# Altium schematic symbol library balloon.SchLib: 132 symbols (part 2 of 2)
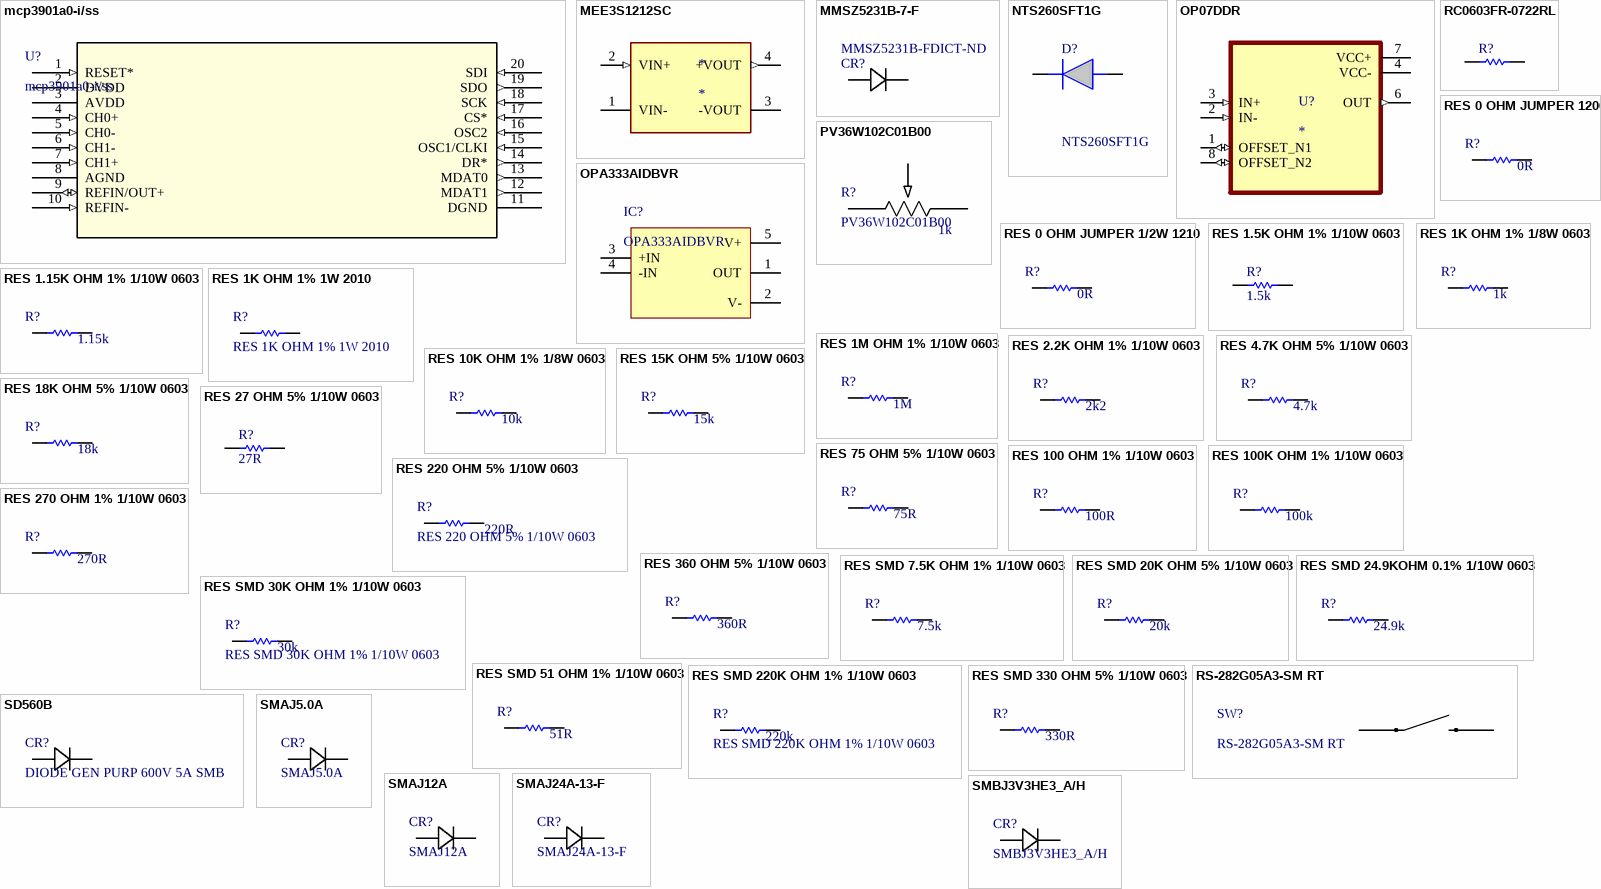
[diagram p4: symbols mcp3901a0-i/ss to SMBJ3V3HE3_A/H]

## RES 27 OHM 5% 1/10W 0603
designator R?, comment Resistance: 27R  (hidden comment: RC0603JR-0727RL)
RES 27 OHM 5% 1/10W 0603; Manufacturer: YAGEO; Supplier PN: 311-27GRCT-ND; Supplier: DIGIKEY; ComponentLink1Description: Supplier Link; ComponentLink1URL: 0R; Manufacturer PN: RC0603JR-0727RL; Supplier 1: Digi-Key; Supplier Part Number 1: 311-27GRCT-ND
footprint 0603 RES
pins: 1, 2

## RES 75 OHM 5% 1/10W 0603
designator R?  Resistance: 75R  (hidden comment: RES 75 OHM 5% 1/10W 0603)
75 Ohms ±5% 0.1W, 1/10W Chip Resistor 0603 (1608 Metric) Moisture Resistant Thick Film; Manufacturer PN: RC0603JR-0775RL; Supplier PN: 311-75GRCT-ND; Supplier: Digikey; Supplier 1: Digi-Key; Supplier Part Number 1: 311-75GRCT-ND
footprint 0603 RES
pins: 1, 2

## RES 100 OHM 1% 1/10W 0603
designator R?  Resistance: 100R  (hidden comment: RES 100 OHM 1% 1/10W 0603)
100 Ohms ±1% 0.1W, 1/10W Chip Resistor 0603 (1608 Metric) Thick Film; Supplier PN: 1292-WR06X1000FTLCT-ND; Supplier: Digikey; Supplier 1: Digi-Key; Supplier Part Number 1: 1292-WR06X1000FTLCT-ND
footprint 0603 RES
pins: 1, 2

## RES 100K OHM 1% 1/10W 0603
designator R?, comment Resistance: 100k  (hidden comment: RC0603FR-07100KL)
RES 100K OHM 1% 1/10W 0603; Manufacturer: YAGEO; Supplier PN: 311-100KHRCT-ND; Supplier: Digikey; Manufacturer PN: RC0603FR-07100KL; Supplier 1: Digi-Key; Supplier Part Number 1: 311-100KHRCT-ND
footprint 0603 RES
pins: 1, 2

## RES 220 OHM 5% 1/10W 0603
designator R?  Resistance: 220R
220 Ohms ±5% 0.1W, 1/10W Chip Resistor 0603 (1608 Metric) Moisture Resistant Thick Film; Manufacturer PN: RC0603JR-07220RL; Supplier 1: Digi-Key; Supplier Part Number 1: 311-220GRCT-ND; Supplier PN: 311-220GRCT-ND
footprint 0603 RES
pins: 1, 2

## RES 270 OHM 1% 1/10W 0603
designator R?  Resistance: 270R  (hidden comment: RES 270 OHM 1% 1/10W 0603)
270 Ohms ±1% 0.1W, 1/10W Chip Resistor 0603 (1608 Metric) Moisture Resistant Thick Film; Manufacturer PN: RC0603FR-07270RL; Manufacturer: YAGEO; Supplier PN: 311-270HRCT-ND; Supplier: Digikey; Supplier 1: Digi-Key; Supplier Part Number 1: 311-270HRCT-ND
footprint 0603 RES
pins: 1, 2

## RES 360 OHM 5% 1/10W 0603
designator R?  Resistance: 360R  (hidden comment: RES 360 OHM 5% 1/10W 0603)
360 Ohms ±5% 0.1W, 1/10W Chip Resistor 0603 (1608 Metric) Moisture Resistant Thick Film; Manufacturer PN: RC0603JR-07360RL; Supplier PN: 311-360GRCT-ND; Supplier: Digikey; Supplier 1: Digi-Key; Supplier Part Number 1: 311-360GRCT-ND
footprint 0603 RES
pins: 1, 2

## RES SMD 7.5K OHM 1% 1/10W 0603
designator R?  Resistance: 7.5k  (hidden comment: RES SMD 7.5K OHM 1% 1/10W 0603)
7.5 kOhms ±1% 0.1W, 1/10W Chip Resistor 0603 (1608 Metric) Automotive AEC-Q200, Moisture Resistant Thick Film; Manufacturer PN: AC0603FR-077K5L; Supplier 1: Digi-Key; Supplier Part Number 1: YAG3631CT-ND; Supplier PN: YAG3631CT-ND
footprint 0603 RES
pins: 1, 2

## RES SMD 20K OHM 5% 1/10W 0603
designator R?, comment Resistance: 20k  (hidden comment: CRCW060320K0JNEA)
20 kOhms ±5% 0.1W, 1/10W Chip Resistor 0603 (1608 Metric) Automotive AEC-Q200 Thick Film; Supplier 1: Digi-Key; Supplier Part Number 1: 541-20KGCT-ND; Supplier PN: 541-20KGCT-ND; Manufacturer PN: CRCW060320K0JNEA
footprint 0603 RES
pins: 1, 2

## RES SMD 24.9KOHM 0.1% 1/10W 0603
designator R?, comment Resistance: 24.9k  (hidden comment: RG1608P-2492-B-T5)
RES SMD 24.9KOHM 0.1% 1/10W 0603; Manufacturer: Susumu; Supplier PN: RG16P24.9KBCT-ND; Supplier: Digikey; Manufacturer PN: RG1608P-2492-B-T5; Supplier 1: Digi-Key; Supplier Part Number 1: RG16P24.9KBCT-ND
footprint 0603 RES
pins: 1, 2

## RES SMD 30K OHM 1% 1/10W 0603
designator R?  Resistance: 30k
30 kOhms ±1% 0.1W, 1/10W Chip Resistor 0603 (1608 Metric) Automotive AEC-Q200, Moisture Resistant Thick Film; Manufacturer PN: AC0603FR-0730KL; Supplier 1: Digi-Key; Supplier Part Number 1: YAG3593CT-ND; Supplier PN: YAG3593CT-ND
footprint 0603 RES
pins: 1, 2

## RES SMD 51 OHM 1% 1/10W 0603
designator R?  Resistance: 51R  (hidden comment: RES SMD 51 OHM 1% 1/10W 0603)
51 Ohms ±1% 0.1W, 1/10W Chip Resistor 0603 (1608 Metric) Automotive AEC-Q200, Moisture Resistant Thick Film; Manufacturer PN: AC0603FR-0751RL; Supplier 1: Digi-Key; Supplier Part Number 1: YAG3617CT-ND; Supplier PN: YAG3617CT-ND
footprint 0603 RES
pins: 1, 2

## RES SMD 220K OHM 1% 1/10W 0603
designator R?  Resistance: 220k
220 kOhms ±1% 0.1W, 1/10W Chip Resistor 0603 (1608 Metric) Automotive AEC-Q200, Moisture Resistant Thick Film; Manufacturer PN: AC0603FR-07220KL; Supplier 1: Digi-Key; Supplier Part Number 1: YAG3579CT-ND; Supplier PN: YAG3579CT-ND
footprint 0603 RES
pins: 1, 2

## RES SMD 330 OHM 5% 1/10W 0603
designator R?  Resistance: 330R  (hidden comment: RES SMD 330 OHM 5% 1/10W 0603)
330 Ohms ±5% 0.1W, 1/10W Chip Resistor 0603 (1608 Metric) Moisture Resistant Thick Film; Manufacturer PN: CR0603-JW-331ELF; Supplier PN: CR0603-JW-331ELFCT-ND; Supplier 1: Digi-Key; Supplier Part Number 1: CR0603-JW-331ELFCT-ND
footprint 0603 RES
pins: 1, 2

## RS-282G05A3-SM RT
designator SW?
No Description Available; Mfr_Name: C&K Components; Copyright: Copyright (C) 2023 Ultra Librarian. All rights reserved.; Manufacturer_Part_Number: RS-282G05A3-SM RT; RefDes: RefDes; Type: DEV
footprint RS-282G05A3-SM RT_CNK
pins: 1, 2

## SD560B
designator CR?, comment DIODE GEN PURP 600V 5A SMB
Diode Standard 600 V 5A Surface Mount SMB (DO-214AA); Manufacturer PN: SD560B; Supplier PN: 1655-SD560BCT-ND; Supplier: DIGIKEY; Supplier 1: Digi-Key; Supplier Part Number 1: 1655-SD560BCT-ND
footprint DIOM4336X265N
pins: 1, 2

## SMAJ5.0A
designator CR?
No Description Available; Mfr_Name: Littelfuse Inc; Type: DEV; Copyright: Copyright (C) 2022 Ultra Librarian. All rights reserved.; Manufacturer_Part_Number: SMAJ5.0A; Digi-Key_Part_Number_1: 2516-SMAJ5.0ATR-ND; Digi-Key_Part_Number_10: SMAJ5.0ALFDKR-ND; Digi-Key_Part_Number_11: SMAJ5.0ALFTR-ND; Digi-Key_Part_Number_2: 2997-SMAJ5.0ATR-ND; Digi-Key_Part_Number_3: 478-7057-1-ND; Digi-Key_Part_Number_4: 478-7057-2-ND; Digi-Key_Part_Number_5: 478-7057-6-ND; Digi-Key_Part_Number_6: SMAJ5.0ABCT-ND; Digi-Key_Part_Number_7: SMAJ5.0ABDKR-ND; Digi-Key_Part_Number_8: SMAJ5.0ABTR-ND; Digi-Key_Part_Number_9: SMAJ5.0ALFCT-ND; RefDes: RefDes; Supplier 1: Digi-Key; Supplier Part Number 1: SMAJ5.0ALFCT-ND
footprint SMASeries_LTF
pins: 1 11, 2 12

## SMAJ12A
designator CR?
No Description Available; Mfr_Name: Littelfuse Inc; Type: DEV; Copyright: Copyright (C) 2022 Ultra Librarian. All rights reserved.; Manufacturer_Part_Number: SMAJ12A; Digi-Key_Part_Number_1: 2516-SMAJ12ATR-ND; Digi-Key_Part_Number_10: SMAJ12ALFDKR-ND; Digi-Key_Part_Number_11: SMAJ12ALFTR-ND; Digi-Key_Part_Number_2: 2997-SMAJ12ATR-ND; Digi-Key_Part_Number_3: 478-7051-1-ND; Digi-Key_Part_Number_4: 478-7051-2-ND; Digi-Key_Part_Number_5: 478-7051-6-ND; Digi-Key_Part_Number_6: SMAJ12ABCT-ND; Digi-Key_Part_Number_7: SMAJ12ABDKR-ND; Digi-Key_Part_Number_8: SMAJ12ABTR-ND; Digi-Key_Part_Number_9: SMAJ12ALFCT-ND; RefDes: RefDes; Supplier 1: Digi-Key; Supplier Part Number 1: SMAJ12ALFCT-ND
footprint SMASeries_LTF
pins: 1 11, 2 12

## SMAJ24A-13-F
designator CR?
No Description Available; Mfr_Name: Diodes Inc; Type: DEV; Copyright: Copyright (C) 2022 Ultra Librarian. All rights reserved.; Manufacturer_Part_Number: SMAJ24A-13-F; Digi-Key_Part_Number_1: SMAJ24A-FDICT-ND; Digi-Key_Part_Number_2: SMAJ24A-FDIDKR-ND; Digi-Key_Part_Number_3: SMAJ24A-FDITR-ND; RefDes: RefDes; Supplier 1: Digi-Key; Supplier Part Number 1: SMAJ24A-FDICT-ND
footprint SMA_DIO
pins: 1, 2

## SMBJ3V3HE3_A/H
designator CR?
TVS DIODE 3.3VWM 10.3VC DO214AA; Mfr_Name: Vishay General Semiconductor - Diodes Division; Type: DEV; Copyright: Copyright (C) 2022 Ultra Librarian. All rights reserved.; Manufacturer_Part_Number: SMBJ3V3HE3_A/H; RefDes: RefDes; Supplier 1: Digi-Key; Supplier Part Number 1: 112-SMBJ3V3HE3_A/HCT-ND
footprint SMASeries_LTF
pins: 1 11, 2 12

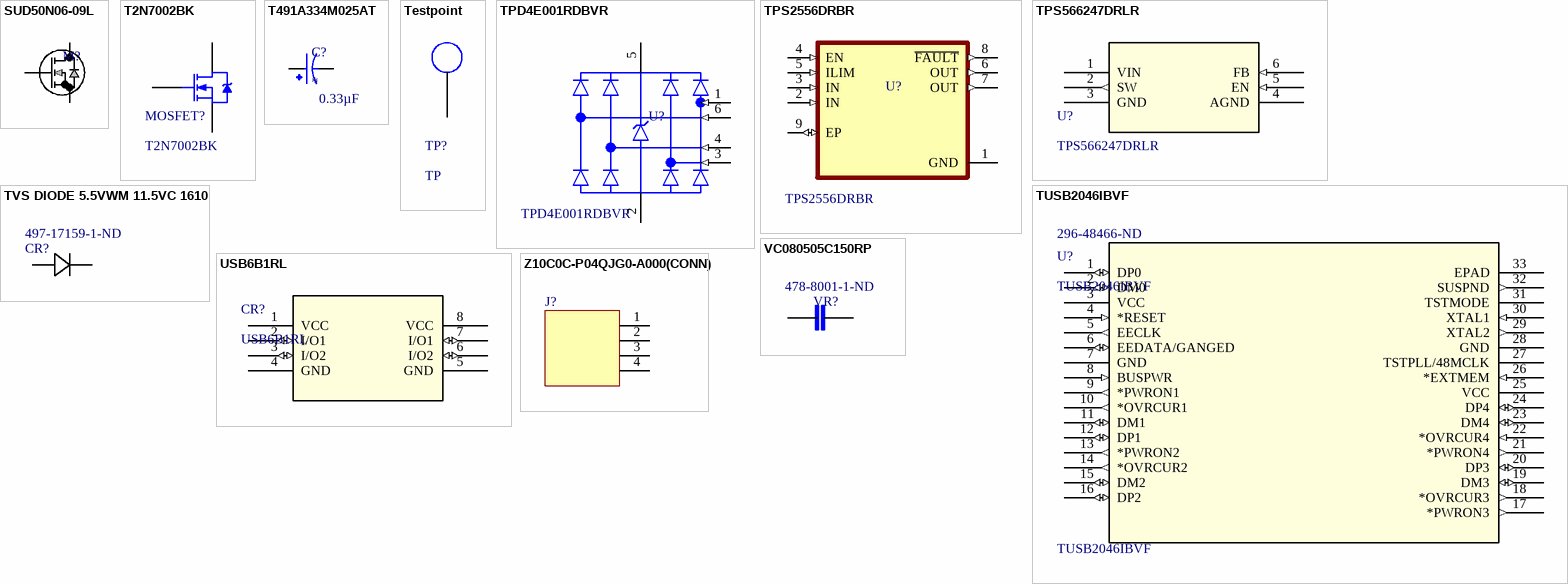
[diagram p3: symbols SUD50N06-09L to Z10C0C-P04QJG0-A000(CONN)]

## SUD50N06-09L
designator M?, comment MOSFET N-CH 60V 50A TO252  (value not drawn)
N-Channel 60 V 50A (Tc) 3W (Ta), 136W (Tc) Surface Mount TO-252AA; Manufacturer PN: SUD50N06-09L-E3; Manufacturer: Vishay Siliconix; Supplier PN: SUD50N06-09L-E3CT-ND; Supplier: DIGIKEY
footprint TO508P1229X317-3N
pins: 1 G, 2 S, 3 D

## T2N7002BK
designator MOSFET?
No Description Available; Mfr_Name: Toshiba Electronic Devices & Storage Corp.; Copyright: Copyright (C) 2022 Ultra Librarian. All rights reserved.; Manufacturer_Part_Number: T2N7002BK; Digi-Key_Part_Number_1: T2N7002BKLMCT-ND; Digi-Key_Part_Number_2: T2N7002BKLMDKR-ND; Digi-Key_Part_Number_3: T2N7002BKLMTR-ND; RefDes: RefDes; Type: DEV; Supplier 1: Digi-Key; Supplier Part Number 1: T2N7002BKLMCT-ND
footprint SOT23_TOS
pins: 1 G, 2 S, 3 D

## T491A334M025AT
designator C?  value 0.33µF
0.33 µF Molded Tantalum Capacitors 25 V 1206 (3216 Metric) 15Ohm; MP: T491A334M025AT; MF: KEMET; Package: SMD-2 KEMET; Check_prices: https://www.snapeda.com/parts/T491A334M025AT/KEMET/view-part/?ref=eda; Purchase-URL: https://pricing.snapeda.com/search/part/T491A334M025AT/?ref=eda; Digi-Key_Part_Number: 399-18022-2-ND; SnapEDA_Link: https://www.snapeda.com/parts/T491A334M025AT/KEMET/view-part/?ref=snap; Supplier 1: Digi-Key; Supplier Part Number 1: 399-18022-1-ND
footprint CAPMP3216X180N
pins: 1, 2

## Testpoint
designator TP?, comment TP  (no BOM)
footprint TEST POINT
pins: 1 P1

## TPD4E001RDBVR
designator U?
Quad 1.5-pF, 5.5-V, Â±8-kV ESD protection diode with 1-nA max leakage & VCC pin for USB 2.0; MF: Texas Instruments; MP: TPD4E001RDBVR; Package: SOT-23-6 Texas Instruments; Purchase-URL: https://pricing.snapeda.com/search/part/TPD4E001RDBVR/?ref=eda; Check_prices: https://www.snapeda.com/parts/TPD4E001RDBVR/Texas+Instruments/view-part/?ref=eda; Digi-Key_Part_Number: 296-TPD4E001RDBVRTR-ND; SnapEDA_Link: https://www.snapeda.com/parts/TPD4E001RDBVR/Texas+Instruments/view-part/?ref=snap; Value: *; Supplier PN: 296-TPD4E001RDBVRCT-ND; Supplier: Digikey; Manufacturer: Texas Instruments; Supplier 1: Digi-Key; Supplier Part Number 1: 296-TPD4E001RDBVRCT-ND; Manufacturer PN: TPD4E001RDBVR
footprint SOT95P280X145-6N
pins: 1 IO1 (in), 2 GND (power), 3 IO2 (in), 4 IO3 (in), 5 VCC (power), 6 IO4 (in)

## TPS2556DRBR
designator U?, comment Manufacturer PN: TPS2556DRBR  (hidden comment: IC PWR SWITCH N-CHAN 1:1 8SON)
0.5A - 5A, adjustable ILIMIT, 2.5-6.5V, active-low enable power switch, 22 mOhm 8-SON -40 to 85; MF: Texas Instruments; MP: TPS2556DRBR; Check_prices: https://www.snapeda.com/parts/TPS2556DRBR/Texas%20Instruments/view-part/496815/?ref=eda; Digi-Key_Part_Number: 296-39382-1-ND; Package: VSON-8 Texas Instruments; Purchase-URL: https://pricing.snapeda.com/search/part/TPS2556DRBR/?ref=eda; Value: *; SnapEDA_Link: https://www.snapeda.com/parts/TPS2556DRBR/Texas%20Instruments/view-part/496815/?ref=snap; Manufacturer: Texas Instruments; Supplier: Digikey; Supplier PN: 296-39382-1-ND; Supplier 1: Digi-Key; Supplier Part Number 1: 296-39382-1-ND
footprint IC_DRV8601DRBT
pins: 1 GND (power), 2 IN (in), 3 IN (in), 4 EN (in), 5 ILIM (in), 6 OUT (out), 7 OUT (out), 8 ~{FAULT} (out), 9 EP (io)

## TPS566247DRLR
designator U?
3-V TO 16-V INPUT VOLTAGE, 6-A F,  Buck Switching Regulator IC Positive Adjustable 0.6V 1 Output 6A SOT-563, SOT-666; Mfr_Name: Texas Instruments; Copyright: Copyright (C) 2023 Ultra Librarian. All rights reserved.; Manufacturer_Part_Number: TPS566247DRLR; Digi-Key_Part_Number_1: 296-TPS566247DRLRTR-ND; Digi-Key_Part_Number_2: 296-TPS566247DRLRCT-ND; Digi-Key_Part_Number_3: 296-TPS566247DRLRDKR-ND; RefDes: RefDes; Type: DEV; Supplier PN: 296-TPS566247DRLRCT-ND; Supplier: DIGIKEY; Manufacturer PN: TPS566247DRLR; Manufacturer: TEXAS INSTRUMENTS
footprint SOT-5X3-6_DRL_TEX
pins: 1 VIN (power), 2 SW (out), 3 GND, 4 AGND, 5 EN (in), 6 FB (in)

## TUSB2046IBVF
designator U?  Supplier Part Number 1: 296-48466-ND
USB Hub Controller USB 2.0 USB Interface 32-LQFP (7x7); Mfr_Name: Texas Instruments; RefDes: RefDes; Type: Type; Supplier: DIGIKEY; Supplier PN: 296-48466-ND; Manufacturer: Texas Instruments; Supplier 1: Digi-Key; Manufacturer PN: TUSB2046IBVF
footprint QFP80P900X900X160-32N
pins: 1 DP0 (io), 2 DM0 (io), 3 VCC (power), 4 *RESET (in), 5 EECLK (out), 6 EEDATA/GANGED (io), 7 GND (power), 8 BUSPWR (in), 9 *PWRON1 (out), 10 *OVRCUR1 (out), 11 DM1 (io), 12 DP1 (io), 13 *PWRON2 (out), 14 *OVRCUR2 (out), 15 DM2 (io), 16 DP2 (io), 17 *PWRON3 (out), 18 *OVRCUR3 (out), 19 DM3 (io), 20 DP3 (io), 21 *PWRON4 (out), 22 *OVRCUR4 (in), 23 DM4 (io), 24 DP4 (io), 25 VCC (power), 26 *EXTMEM (in), 27 TSTPLL/48MCLK, 28 GND (power), 29 XTAL2 (out), 30 XTAL1 (in), 31 TSTMODE, 32 SUSPND (out), 33 EPAD

## TVS DIODE 5.5VWM 11.5VC 1610
designator CR?  Supplier Part Number 1: 497-17159-1-ND  (hidden comment: TVS DIODE 5.5VWM 11.5VC 1610)
11.5V Clamp 120A (8/20µs) Ipp Tvs Diode Surface Mount 1610; Manufacturer PN: ESDA7P120-1U1M; Supplier PN: 497-17159-1-ND; Supplier 1: Digi-Key
footprint DIODFN160X100X55-2N
pins: 1 11, 2 12

## USB6B1RL
designator CR?
No Description Available; Mfr_Name: STMicroelectronics; Type: DEV; Copyright: Copyright (C) 2022 Ultra Librarian. All rights reserved.; Manufacturer_Part_Number: USB6B1RL; Digi-Key_Part_Number_1: 497-3281-1-ND; Digi-Key_Part_Number_2: 497-3281-2-ND; Digi-Key_Part_Number_3: 497-3281-6-ND; RefDes: RefDes; Supplier 1: Digi-Key; Supplier Part Number 1: 497-3281-1-ND
footprint SO-8_STM
pins: 1 VCC (power), 2 I/O1 (io), 3 I/O2 (io), 4 GND (power), 5 GND (power), 6 I/O2 (io), 7 I/O1 (io), 8 VCC (power)

## VC080505C150RP
designator VR?, comment Supplier Part Number 1: 478-8001-1-ND  (hidden comment: VARISTOR 8.5V 120A 0805)
8.5 V 120 A Varistor 1 Circuit Surface Mount, MLCV 0805 (2012 Metric); MF: AVX; MP: VC080505C150RP; Check_prices: https://www.snapeda.com/parts/VC080505C150RP/AVX+%252F+Kyocera/view-part/?ref=eda; Value: *; Purchase-URL: https://pricing.snapeda.com/search/part/VC080505C150RP/?ref=eda; SnapEDA_Link: https://www.snapeda.com/parts/VC080505C150RP/AVX+%252F+Kyocera/view-part/?ref=snap; Digi-Key_Part_Number: 478-8001-2-ND; Package: 0805-2 AVX; Supplier 1: Digi-Key; Supplier PN: 478-8001-1-ND; Manufacturer PN: VC080505C150RP
footprint CAPC2012X140N
pins: 1, 2

## Z10C0C-P04QJG0-A000(CONN)
designator J?, comment Z10C0C-P04QJG0-A000  (value not drawn)
footprint Z10C0C-P04QJG0-A000
pins: 1, 2, 3, 4